# Altium schematic symbol library Schlib1.SchLib: 1 symbol
Pins are listed as number, name and electrical type; pins without a type are passive.

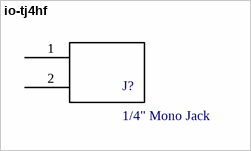
[diagram p0: symbol io-tj4hf]

## io-tj4hf
designator J?, comment 1/4" Mono Jack
Manufacturer: IO Audio Technologies; Part Number: IO-TJ4HF; Compoonent Type: 1/4" (6.35mm) Phone Jack; Termination: PCB Mount
pins: 1 Tip, 2 Sleeve